# Altium schematic symbol library transformer.SchLib: 20 symbols
Pins are listed as number, name and electrical type; pins without a type are passive.

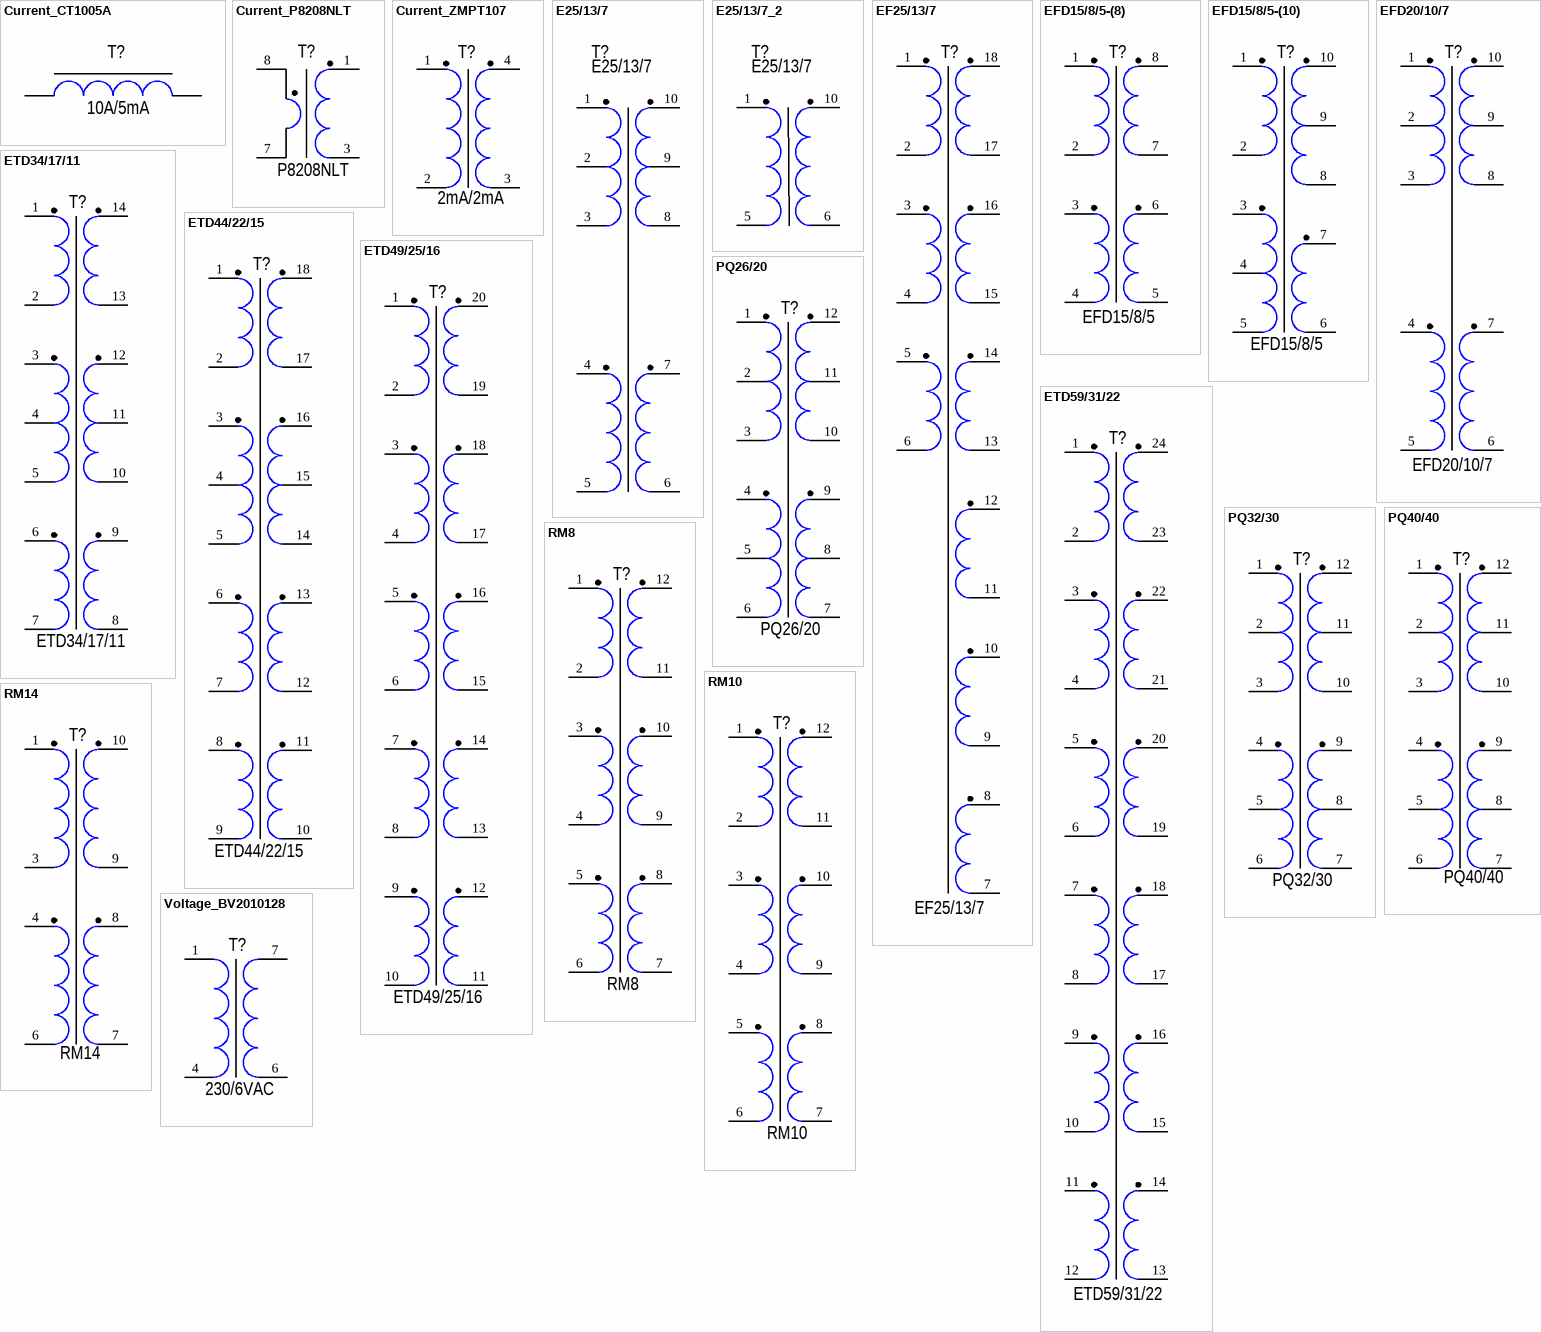
[diagram p0: symbols Current_CT1005A to Voltage_BV2010128]

## Current_CT1005A
designator T?  Voltage: 10A/5mA
Manufacturer: Asia; ValueManufacturerPartNumber: Transformer, 10A/5mA, 0...250 Ohm; PartNumber: DL-CT1005A; TypeTransformer: Transformer; Power: 0...250 Ohm; HelpURL: https://ru.aliexpress.com/item/32848841435.html?spm=a2g0v.search0104.3.2.64104769Wp7Ww8&ws_ab_test=searchweb0_0%2Csearchweb201602_10_10065_10068_319_317_10696_453_10084_454_10083_10618_10307_10301_537_536_10059_10884_10887_321_322_10915_10103_10914_10911_10910%2Csearchweb201603_52%2CppcSwitch_0&algo_expid=7e4b162f-38ca-419c-8891-4e3cfaf6b6a7-0&algo_pvid=7e4b162f-38ca-419c-8891-4e3cfaf6b6a7&transAbTest=ae803_5
footprint TRANS: DL-CT1005A
footprint TRANS: ZMCT102
pins: 1 (power), 2 (power)

## Current_P8208NLT
designator T?  PartNumber: P8208NLT
Manufacturer: Pulse Electronics; ValueManufacturerPartNumber: Current transformer, 1:100, 50...1000 kHz; TypeTransformer: Current transformer; Power: 50...1000 kHz; Voltage: 1:100; HelpURL: https://www.digikey.com/product-detail/en/pulse-electronics-power/P8208NLT/553-1523-1-ND/2362921
footprint TRANS: P8208NLT
pins: 1 (power), 3 (power), 7 (power), 8 (power)

## Current_ZMPT107
designator T?  Current: 2mA/2mA
Manufacturer: Asia; ValueManufacturerPartNumber: Transformer, 1000:1000, 2mA/2mA; PartNumber: ZMPT107; TypeTransformer: Transformer; TurnsRatio: 1000:1000; HelpURL: https://aliexpress.ru/i/32958862009.html
footprint TRANS: ZMPT107
pins: 1 (power), 2 (power), 3 (power), 4 (power)

## E25/13/7
designator T?  Package: E25/13/7
Manufacturer: Epcos; ValueManufacturerPartNumber: Transformer, E25/13/7; PartNumber: B66208W1010T001; TypeTransformer: Transformer; HelpURL: http://ferrite.ru/warehouse/e-25-13-7-karkas-b66208w1010t001.html
footprint TRANS: E25/13/7
pins: 1 (power), 2 (power), 3 (power), 4 (power), 5 (power), 6 (power), 7 (power), 8 (power), 9 (power), 10 (power)

## E25/13/7_2
designator T?  Package: E25/13/7
Manufacturer: Epcos; ValueManufacturerPartNumber: Transformer, E25/13/7; PartNumber: B66208W1010T001; TypeTransformer: Transformer; HelpURL: http://ferrite.ru/warehouse/e-25-13-7-karkas-b66208w1010t001.html
footprint TRANS: E25/13/7
pins: 1 (power), 5 (power), 6 (power), 10 (power)

## EF25/13/7
designator T?  Package: EF25/13/7
Manufacturer: Feryster; ValueManufacturerPartNumber: Transformer, EF25/13/7; PartNumber: EF25_7-K-H-19P-MP; TypeTransformer: Transformer; HelpURL: https://feryster.com.pl/polski/podglad.php?lang=pl&id=404
footprint TRANS: EF25/13/7
pins: 1 (power), 2 (power), 3 (power), 4 (power), 5 (power), 6 (power), 7 (power), 8 (power), 9 (power), 10 (power), 11 (power), 12 (power), 13 (power), 14 (power), 15 (power), 16 (power), 17 (power), 18 (power)

## EFD15/8/5-(8)
designator T?  Package: EFD15/8/5
Manufacturer: Epcos; ValueManufacturerPartNumber: Transformer, EFD15/8/5; PartNumber: B66414W1008D001; TypeTransformer: Transformer; HelpURL: https://ferrite.ru/warehouse/efd-15-8-5-karkas-b66414w1008d001.html
footprint TRANS: EFD15/8/5 - (8)
pins: 1 (power), 2 (power), 3 (power), 4 (power), 5 (power), 6 (power), 7 (power), 8 (power)

## EFD15/8/5-(10)
designator T?  Package: EFD15/8/5
Manufacturer: Asia; ValueManufacturerPartNumber: Transformer, EFD15/8/5; PartNumber: E-027; TypeTransformer: Transformer; HelpURL: http://ferrite.ru/warehouse/efd15-8-5-karkas-1-sek-10-vyv-smd-e-027.html
footprint TRANS: EFD15/8/5 - (10)
pins: 1 (power), 2 (power), 3 (power), 4 (power), 5 (power), 6 (power), 7 (power), 8 (power), 9 (power), 10 (power)

## EFD20/10/7
designator T?  Package: EFD20/10/7
Manufacturer: Asia; ValueManufacturerPartNumber: Transformer, EFD20/10/7; PartNumber: E-066; TypeTransformer: Transformer; HelpURL: http://ferrite.ru/warehouse/efd20-10-7-karkas-1-sek-10-vyv-smd-e-066.html
footprint TRANS: EFD20/10/7
pins: 1 (power), 2 (power), 3 (power), 4 (power), 5 (power), 6 (power), 7 (power), 8 (power), 9 (power), 10 (power)

## ETD34/17/11
designator T?  Package: ETD34/17/11
Manufacturer: Epcos; ValueManufacturerPartNumber: Transformer, ETD34/17/11; PartNumber: B66362B1014T001; TypeTransformer: Transformer; HelpURL: http://ferrite.ru/warehouse/etd-34-17-11-karkas-b66362b1014t001.html
footprint TRANS: ETD34/17/11
pins: 1 (power), 2 (power), 3 (power), 4 (power), 5 (power), 6 (power), 7 (power), 8 (power), 9 (power), 10 (power), 11 (power), 12 (power), 13 (power), 14 (power)

## ETD44/22/15
designator T?  Package: ETD44/22/15
Manufacturer: Epcos; ValueManufacturerPartNumber: Transformer, ETD44/22/15; PartNumber: B66362B1014T001; TypeTransformer: Transformer; HelpURL: http://ferrite.ru/warehouse/etd-34-17-11-karkas-b66362b1014t001.html
footprint TRANS: ETD44/22/15
pins: 1 (power), 2 (power), 3 (power), 4 (power), 5 (power), 6 (power), 7 (power), 8 (power), 9 (power), 10 (power), 11 (power), 12 (power), 13 (power), 14 (power), 15 (power), 16 (power), 17 (power), 18 (power)

## ETD49/25/16
designator T?  Package: ETD49/25/16
Manufacturer: Epcos; ValueManufacturerPartNumber: Transformer, ETD49/25/16; PartNumber: B66368W1020T001; TypeTransformer: Transformer; HelpURL: http://ferrite.ru/warehouse/etd-49-25-16-karkas-b66368w1020t001.html
footprint TRANS: ETD49/25/16
pins: 1 (power), 2 (power), 3 (power), 4 (power), 5 (power), 6 (power), 7 (power), 8 (power), 9 (power), 10 (power), 11 (power), 12 (power), 13 (power), 14 (power), 15 (power), 16 (power), 17 (power), 18 (power), 19 (power), 20 (power)

## ETD59/31/22
designator T?  Package: ETD59/31/22
Manufacturer: Epcos; ValueManufacturerPartNumber: Transformer, ETD59/31/22; PartNumber: B66398W1024T001; TypeTransformer: Transformer; HelpURL: http://ferrite.ru/warehouse/etd-59-31-22-karkas-b66398w1024t001.html
footprint TRANS: ETD59/31/22
pins: 1 (power), 2 (power), 3 (power), 4 (power), 5 (power), 6 (power), 7 (power), 8 (power), 9 (power), 10 (power), 11 (power), 12 (power), 13 (power), 14 (power), 15 (power), 16 (power), 17 (power), 18 (power), 19 (power), 20 (power), 21 (power), 22 (power), 23 (power), 24 (power)

## PQ26/20
designator T?  Package: PQ26/20
Manufacturer: Epcos; ValueManufacturerPartNumber: Transformer, PQ26/20; PartNumber: B65878E0012D001; TypeTransformer: Transformer; HelpURL: http://ferrite.ru/warehouse/pq-26-20-karkas-b65878e0012d001.html
footprint TRANS: PQ26/20
pins: 1 (power), 2 (power), 3 (power), 4 (power), 5 (power), 6 (power), 7 (power), 8 (power), 9 (power), 10 (power), 11 (power), 12 (power)

## PQ32/30
designator T?  Package: PQ32/30
Manufacturer: Epcos; ValueManufacturerPartNumber: Transformer, PQ32/30; PartNumber: B65879B0000R087; TypeTransformer: Transformer; HelpURL: https://ru.mouser.com/ProductDetail/EPCOS-TDK/B65879B0000R087?qs=%2Fha2pyFaduiTdEjslNDxXMea%252BWmSMKe1XT39uZfFPyukz%252BcIY0fkeQ%3D%3D
footprint TRANS: PQ32/30
pins: 1 (power), 2 (power), 3 (power), 4 (power), 5 (power), 6 (power), 7 (power), 8 (power), 9 (power), 10 (power), 11 (power), 12 (power)

## PQ40/40
designator T?  Package: PQ40/40
Manufacturer: Epcos; ValueManufacturerPartNumber: Transformer, PQ40/40; PartNumber: B65884E0012D001; TypeTransformer: Transformer; HelpURL: https://ru.mouser.com/ProductDetail/EPCOS-TDK/B65884E0012D001?qs=sGAEpiMZZMukHu%252BjC5l7YdedC9m8ek6SlE%2Fd9SU%252Bw9s%3D
footprint TRANS: PQ40/40
pins: 1 (power), 2 (power), 3 (power), 4 (power), 5 (power), 6 (power), 7 (power), 8 (power), 9 (power), 10 (power), 11 (power), 12 (power)

## RM8
designator T?  Package: RM8
Manufacturer: Epcos; ValueManufacturerPartNumber: Transformer, RM8; PartNumber: B65812N1012D001; TypeTransformer: Transformer; HelpURL: http://ferrite.ru/warehouse/rm-8-karkas-b65812n1012d001.html
footprint TRANS: RM8 v.1
footprint TRANS: RM8 v.2
pins: 1 (power), 2 (power), 3 (power), 4 (power), 5 (power), 6 (power), 7 (power), 8 (power), 9 (power), 10 (power), 11 (power), 12 (power)

## RM10
designator T?  Package: RM10
Manufacturer: Ferroxcube; ValueManufacturerPartNumber: Transformer, RM10; PartNumber: CSV-RM10-1S-12P-C; TypeTransformer: Transformer; HelpURL: http://ferrite.ru/warehouse/rm10-karkas-csv-rm-10-1s-12p-c.html
footprint TRANS: RM10
pins: 1 (power), 2 (power), 3 (power), 4 (power), 5 (power), 6 (power), 7 (power), 8 (power), 9 (power), 10 (power), 11 (power), 12 (power)

## RM14
designator T?  Package: RM14
Manufacturer: Epcos; ValueManufacturerPartNumber: Transformer, RM14; PartNumber: B65888N1010D001; TypeTransformer: Transformer; HelpURL: http://ferrite.ru/warehouse/rm-14-karkas-b65888n1010d001.html
footprint TRANS: RM14 (TR V.1)
pins: 1 (power), 3 (power), 4 (power), 6 (power), 7 (power), 8 (power), 9 (power), 10 (power)

## Voltage_BV2010128
designator T?  Voltage: 230/6VAC
Manufacturer: Hahn Trafo; ValueManufacturerPartNumber: Transformer, 230/6VAC, 0.35W; PartNumber: BV2010128; TypeTransformer: Transformer; Power: 0.35W; HelpURL: https://www.electronshik.ru/item/HAHN/BV%20201%200128
footprint TRANS: BV 201 0128
pins: 1 (power), 4 (power), 6 (power), 7 (power)